# EAGLE library part 52437-2471 (library Jack-connectors)
Molex FFC/FPC connector, 24 Circuits, 0.5 mm pitch, bottom style, SMT Right Angle, ZIF
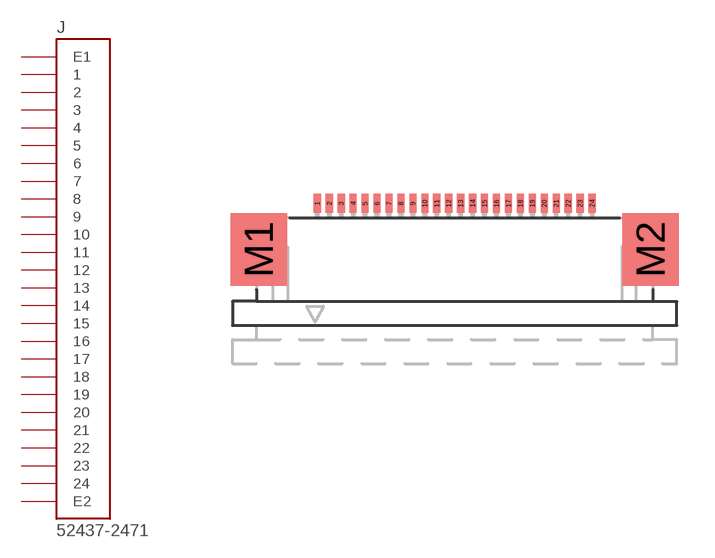
[diagram p22: symbol with the pads of SD-52437-2471; footprint SD-52437-2471]

Designator prefix J

## 52437-2471 (DESCRIPTION: Molex FFC/FPC connector, 24 Circuits, bottom style, SMT Right Angle, ZIF; PACK: 52437-2471)  [SD-52437-2471]
1  1  pas
2  2  pas
3  3  pas
4  4  pas
5  5  pas
6  6  pas
7  7  pas
8  8  pas
9  9  pas
10  10  pas
11  11  pas
12  12  pas
13  13  pas
14  14  pas
15  15  pas
16  16  pas
17  17  pas
18  18  pas
19  19  pas
20  20  pas
21  21  pas
22  22  pas
23  23  pas
24  24  pas
M1  E1  pas
M2  E2  pas

## Footprint SD-52437-2471 (pad centres in mm)
smd 0.3 x 0.8: 1 -5.75,1.45; 2 -5.25,1.45; 3 -4.75,1.45; 4 -4.25,1.45; 5 -3.75,1.45; 6 -3.25,1.45; 7 -2.75,1.45; 8 -2.25,1.45; 9 -1.75,1.45; 10 -1.25,1.45; 11 -0.75,1.45; 12 -0.25,1.45; 13 0.25,1.45; 14 0.75,1.45; 15 1.25,1.45; 16 1.75,1.45; 17 2.25,1.45; 18 2.75,1.45; 19 3.25,1.45; 20 3.75,1.45; 21 4.25,1.45; 22 4.75,1.45; 23 5.25,1.45; 24 5.75,1.45
smd 2.4 x 3.05: M1 -8.2,-0.475; M2 8.2,-0.475